# EAGLE library part M24C08-WMN6P (library ST Microelectronics)
EEPROM
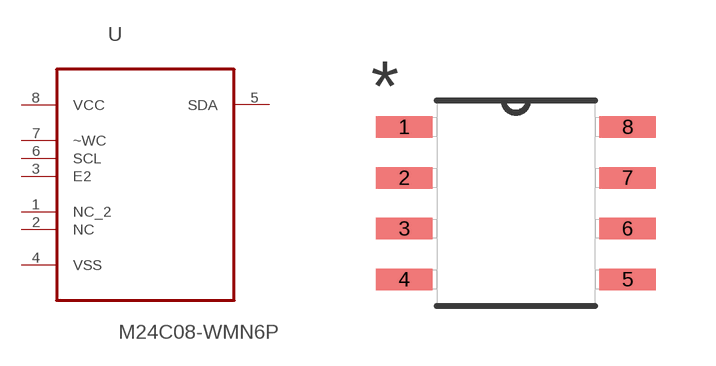
[diagram p151: symbol with the pads of SOIC127P600X175-8N; footprint SOIC127P600X175-8N]

Designator prefix U

## M24C08-WMN6P (MPN: M24C08-WMN6P; OC_FARNELL: 9882839; OC_NEWARK: 10M7395; PACKAGE: SOIC-8; SUPPLIER: STMicroelectronics)  [SOIC127P600X175-8N]
1  NC_2  nc
2  NC  nc
3  E2  in
4  VSS  pas
5  SDA
6  SCL  in
7  ~WC  in
8  VCC  pwr

## Footprint SOIC127P600X175-8N (pad centres in mm)
smd 1.422 x 0.533: 1 -2.794,1.905; 2 -2.794,0.635; 3 -2.794,-0.635; 4 -2.794,-1.905; 5 2.794,-1.905; 6 2.794,-0.635; 7 2.794,0.635; 8 2.794,1.905